# Altium schematic symbol library SCH - SWITCH - NKK MS12ASG13.SCHLIB: 1 symbol
Pins are listed as number, name and electrical type; pins without a type are passive.

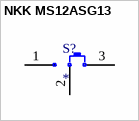
[diagram p0: symbol NKK MS12ASG13]

## NKK MS12ASG13
designator S?
pins: 1, 2 COM, 3